# Altium footprint library Capacitor Non-Polar Disc.PcbLib: 220 footprints (part 1 of 14)
Each footprint in its own frame and in the unit in brackets; x right, y up, seen from the top. Pads: shape width x height; smd on the part's side, far side on the other; paste and mask are expansions set on the pad; w line width, h text height; cw(c..) or ccw(c..) is an arc to the next point about the centre after c.
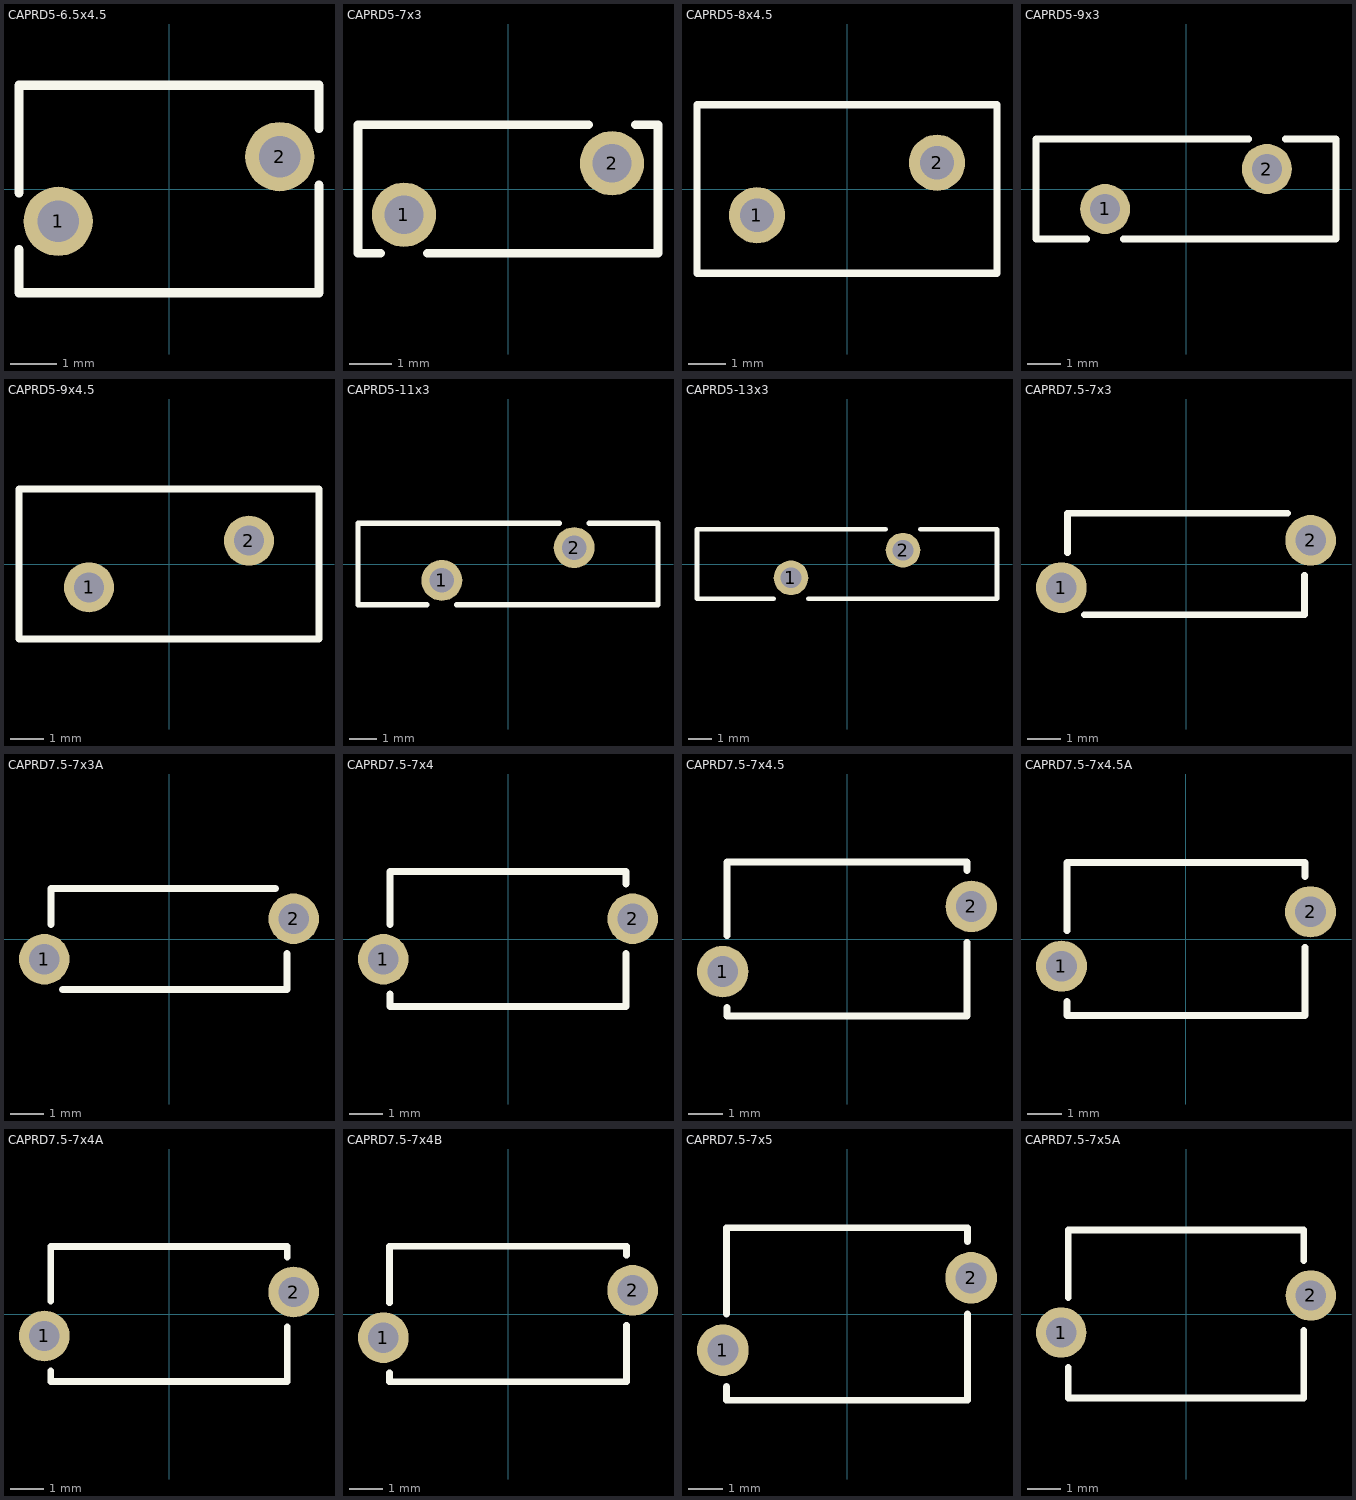
[diagram p0: the footprints below, top view; thin cyan lines are the x and y axes]

## CAPRD5-6.5x4.5 [mm] "Capacitor, Ceramic, Thru-Hole, Disc; Body 6.5 x 4.5 mm (LxW max) Pin Spacing 5 mm (typ)"
height 9.5
pads (2):
  round 1.5 hole 0.9: 1(-2.4,-0.7) 2(2.4,0.7)
Top Overlay:
  lines w0.2: -3.25,-1.317 -3.25,-2.25 3.25,-2.25 3.25,0.083 ; -3.25,-0.083 -3.25,2.225 ; -3.25,2.25 3.25,2.25 3.25,1.317

## CAPRD5-7x3 [mm] "Capacitor, Ceramic, Thru-Hole, Disc; Body 7 x 3 mm (LxW max) Pin Spacing 5 mm (typ)"
height 10
pads (2):
  round 1.5 hole 0.9: 1(-2.427,-0.6) 2(2.427,0.6)
Top Overlay:
  lines w0.2: -2.974,-1.5 -3.5,-1.5 -3.5,1.5 1.88,1.5 ; -1.88,-1.5 3.5,-1.5 3.5,1.5 2.974,1.5

## CAPRD5-8x4.5 [mm] "Capacitor, Ceramic, Thru-Hole, Disc; Body 8 x 4.5 mm (LxW max) Pin Spacing 5 mm (typ)"
height 11
pads (2):
  round 1.5 hole 0.9: 1(-2.4,-0.7) 2(2.4,0.7)
Top Overlay:
  lines w0.2: -4,-2.25 4,-2.25 4,2.25 -4,2.25 -4,-2.25

## CAPRD5-9x3 [mm] "Capacitor, Ceramic, Thru-Hole, Disc; Body 9 x 3 mm (LxW max) Pin Spacing 5 mm (typ)"
height 12
pads (2):
  round 1.5 hole 0.9: 1(-2.427,-0.6) 2(2.427,0.6)
Top Overlay:
  lines w0.2: -2.974,-1.5 -4.5,-1.5 -4.5,1.5 1.88,1.5 ; -1.88,-1.5 4.5,-1.5 4.5,1.5 2.974,1.5

## CAPRD5-9x4.5 [mm] "Capacitor, Ceramic, Thru-Hole, Disc; Body 9 x 4.5 mm (LxW max) Pin Spacing 5 mm (typ)"
height 12
pads (2):
  round 1.5 hole 0.9: 1(-2.4,-0.7) 2(2.4,0.7)
Top Overlay:
  lines w0.2: -4.5,-2.25 -4.5,2.25 4.5,2.25 4.5,-2.25 -4.5,-2.25

## CAPRD5-11x3 [mm] "Capacitor, Ceramic, Thru-Hole, Disc; Body 11 x 3 mm (LxW max) Pin Spacing 5 mm (typ)"
height 14
pads (2):
  round 1.5 hole 0.9: 1(-2.427,-0.6) 2(2.427,0.6)
Top Overlay:
  lines w0.2: -2.974,-1.5 -5.5,-1.5 -5.5,1.5 1.88,1.5 ; -1.88,-1.5 5.5,-1.5 5.5,1.5 2.974,1.5

## CAPRD5-13x3 [mm] "Capacitor, Ceramic, Thru-Hole, Disc; Body 13 x 3 mm (LxW max) Pin Spacing 5 mm (typ)"
height 16
pads (2):
  round 1.5 hole 0.9: 1(-2.427,-0.6) 2(2.427,0.6)
Top Overlay:
  lines w0.2: -3.178,-1.5 -6.5,-1.5 -6.5,1.5 1.68,1.5 ; -1.68,-1.5 6.5,-1.5 6.5,1.5 3.178,1.5

## CAPRD7.5-7x3 [mm] "Capacitor, Ceramic, Thru-Hole, Disc; Body 7 x 3 mm (LxW max) Pin Spacing 7.5 mm (typ)"
height 10
pads (2):
  round 1.5 hole 0.9: 1(-3.684,-0.7) 2(3.684,0.7)
Top Overlay:
  lines w0.2: -3.5,0.336 -3.5,1.5 3,1.5 ; -3,-1.5 3.5,-1.5 3.5,-0.336

## CAPRD7.5-7x3A [mm] "Capacitor, Ceramic, Thru-Hole, Disc; Body 7 x 3 mm (LxW max) Pin Spacing 7.5 mm (typ)"
height 10
pads (2):
  round 1.5 hole 0.9: 1(-3.702,-0.6) 2(3.702,0.6)
Top Overlay:
  lines w0.2: -3.5,0.431 -3.5,1.5 3.16,1.5 ; -3.16,-1.5 3.5,-1.5 3.5,-0.431

## CAPRD7.5-7x4 [mm] "Capacitor, Ceramic, Thru-Hole, Disc; Body 7 x 4 mm (LxW max) Pin Spacing 7.5 mm (typ)"
height 10
pads (2):
  round 1.5 hole 0.9: 1(-3.702,-0.6) 2(3.702,0.6)
Top Overlay:
  lines w0.2: -3.5,-1.633 -3.5,-2 3.5,-2 3.5,-0.433 ; -3.5,0.433 -3.5,2 3.5,2 3.5,1.633

## CAPRD7.5-7x4.5 [mm] "Capacitor, Ceramic, Thru-Hole, Disc; Body 7 x 4.5 mm (LxW max) Pin Spacing 7.5 mm (typ)"
height 10
pads (2):
  round 1.5 hole 0.9: 1(-3.628,-0.95) 2(3.628,0.95)
Top Overlay:
  lines w0.2: -3.5,-1.995 -3.5,-2.25 3.5,-2.25 3.5,-0.095 ; -3.5,0.095 -3.5,2.25 3.5,2.25 3.5,1.995

## CAPRD7.5-7x4.5A [mm] "Capacitor, Ceramic, Thru-Hole, Disc; Body 7 x 4.5 mm (LxW max) Pin Spacing 7.5 mm (typ)"
height 10
pads (2):
  round 1.5 hole 0.9: 1(-3.664,-0.8) 2(3.664,0.8)
Top Overlay:
  lines w0.2: -3.5,-1.84 -3.5,-2.25 3.5,-2.25 3.5,-0.24 ; -3.5,0.24 -3.5,2.25 3.5,2.25 3.5,1.84

## CAPRD7.5-7x4A [mm] "Capacitor, Ceramic, Thru-Hole, Disc; Body 7 x 4 mm (LxW max) Pin Spacing 7.5 mm (typ)"
height 10
pads (2):
  round 1.5 hole 0.9: 1(-3.693,-0.65) 2(3.693,0.65)
Top Overlay:
  lines w0.2: -3.5,-1.685 -3.5,-2 3.5,-2 3.5,-0.385 ; -3.5,0.385 -3.5,2 3.5,2 3.5,1.685

## CAPRD7.5-7x4B [mm] "Capacitor, Ceramic, Thru-Hole, Disc; Body 7 x 4 mm (LxW max) Pin Spacing 7.5 mm (typ)"
height 10
pads (2):
  round 1.5 hole 0.9: 1(-3.684,-0.7) 2(3.684,0.7)
Top Overlay:
  lines w0.2: -3.5,-1.736 -3.5,-2 3.5,-2 3.5,-0.336 ; -3.5,0.336 -3.5,2 3.5,2 3.5,1.736

## CAPRD7.5-7x5 [mm] "Capacitor, Ceramic, Thru-Hole, Disc; Body 7 x 5 mm (LxW max) Pin Spacing 7.5 mm (typ)"
height 10
pads (2):
  round 1.5 hole 0.9: 1(-3.6,-1.05) 2(3.6,1.05)
Top Overlay:
  lines w0.2: -3.5,-2.1 -3.5,-2.5 3.5,-2.5 3.5,0 ; -3.5,0 -3.5,2.5 3.5,2.5 3.5,2.1

## CAPRD7.5-7x5A [mm] "Capacitor, Ceramic, Thru-Hole, Disc; Body 7 x 5 mm (LxW max) Pin Spacing 7.5 mm (typ)"
height 10
pads (2):
  round 1.5 hole 0.9: 1(-3.709,-0.55) 2(3.709,0.55)
Top Overlay:
  lines w0.2: -3.5,-1.58 -3.5,-2.5 3.5,-2.5 3.5,-0.48 ; -3.5,0.48 -3.5,2.5 3.5,2.5 3.5,1.58